# Altium schematic symbol library BC95GJB02STD.SchLib: 1 symbol
Pins are listed as number, name and electrical type; pins without a type are passive.

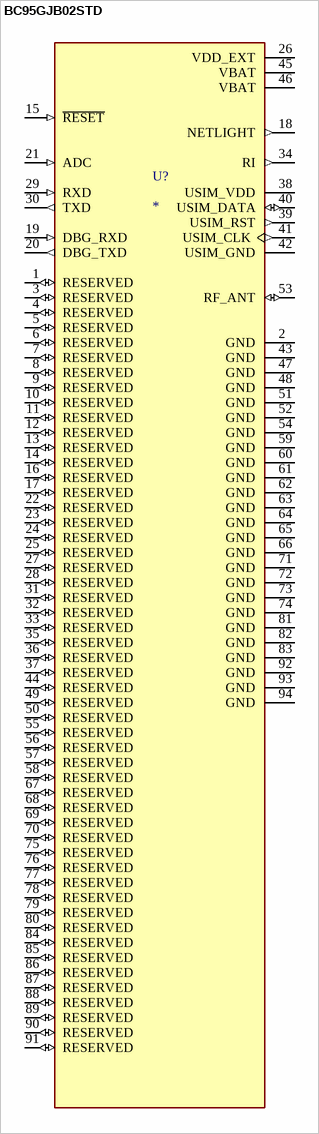
[diagram p0: symbol BC95GJB02STD]

## BC95GJB02STD
designator U?
Cellular GPRS, GSM, LTE Transceiver Module 700MHz, 800MHz, 850MHz, 900MHz, 1.8GHz, 2.1GHz Antenna Not Included Surface Mount; MP: BC95GJB02STD; MF: Quectel; Availability: In Stock; Check_prices: https://www.snapeda.com/parts/BC95GJB02STD/Quectel/view-part/?ref=eda; Package: None; SnapEDA_Link: https://www.snapeda.com/parts/BC95GJB02STD/Quectel/view-part/?ref=snap; Price: None; Value: *
footprint XCVR_BC95GJB02STD
pins: 1 RESERVED (io), 2 GND (power), 3 RESERVED (io), 4 RESERVED (io), 5 RESERVED (io), 6 RESERVED (io), 7 RESERVED (io), 8 RESERVED (io), 9 RESERVED (io), 10 RESERVED (io), 11 RESERVED (io), 12 RESERVED (io), 13 RESERVED (io), 14 RESERVED (io), 15 ~{RESET} (in), 16 RESERVED (io), 17 RESERVED (io), 18 NETLIGHT (out), 19 DBG_RXD (in), 20 DBG_TXD (out), 21 ADC (in), 22 RESERVED (io), 23 RESERVED (io), 24 RESERVED (io), 25 RESERVED (io), 26 VDD_EXT (power), 27 RESERVED (io), 28 RESERVED (io), 29 RXD (in), 30 TXD (out), 31 RESERVED (io), 32 RESERVED (io), 33 RESERVED (io), 34 RI (out), 35 RESERVED (io), 36 RESERVED (io), 37 RESERVED (io), 38 USIM_VDD (power), 39 USIM_RST (out), 40 USIM_DATA (io), 41 USIM_CLK (out), 42 USIM_GND (power), 43 GND (power), 44 RESERVED (io), 45 VBAT (power), 46 VBAT (power), 47 GND (power), 48 GND (power), 49 RESERVED (io), 50 RESERVED (io), 51 GND (power), 52 GND (power), 53 RF_ANT (io), 54 GND (power), 55 RESERVED (io), 56 RESERVED (io), 57 RESERVED (io), 58 RESERVED (io), 59 GND (power), 60 GND (power), 61 GND (power), 62 GND (power), 63 GND (power), 64 GND (power), 65 GND (power), 66 GND (power), 67 RESERVED (io), 68 RESERVED (io), 69 RESERVED (io), 70 RESERVED (io), 71 GND (power), 72 GND (power), 73 GND (power), 74 GND (power), 75 RESERVED (io), 76 RESERVED (io), 77 RESERVED (io), 78 RESERVED (io), 79 RESERVED (io), 80 RESERVED (io), 81 GND (power), 82 GND (power), 83 GND (power), 84 RESERVED (io), 85 RESERVED (io), 86 RESERVED (io), 87 RESERVED (io), 88 RESERVED (io), 89 RESERVED (io), 90 RESERVED (io), 91 RESERVED (io), 92 GND (power), 93 GND (power), 94 GND (power)